# Altium schematic symbol library MCP9700A.Schlib: 1 symbol
Pins are listed as number, name and electrical type; pins without a type are passive.

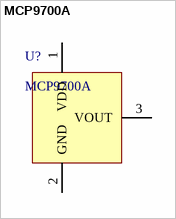
[diagram p0: symbol MCP9700A]

## MCP9700A
designator U?
pins: 1 VDD, 2 GND, 3 VOUT